# Altium footprint library PQFN50P350X550X100_HS-25N.PcbLib: 1 footprints
Each footprint in its own frame and in the unit in brackets; x right, y up, seen from the top. Pads: shape width x height; smd on the part's side, far side on the other; paste and mask are expansions set on the pad; w line width, h text height; cw(c..) or ccw(c..) is an arc to the next point about the centre after c.
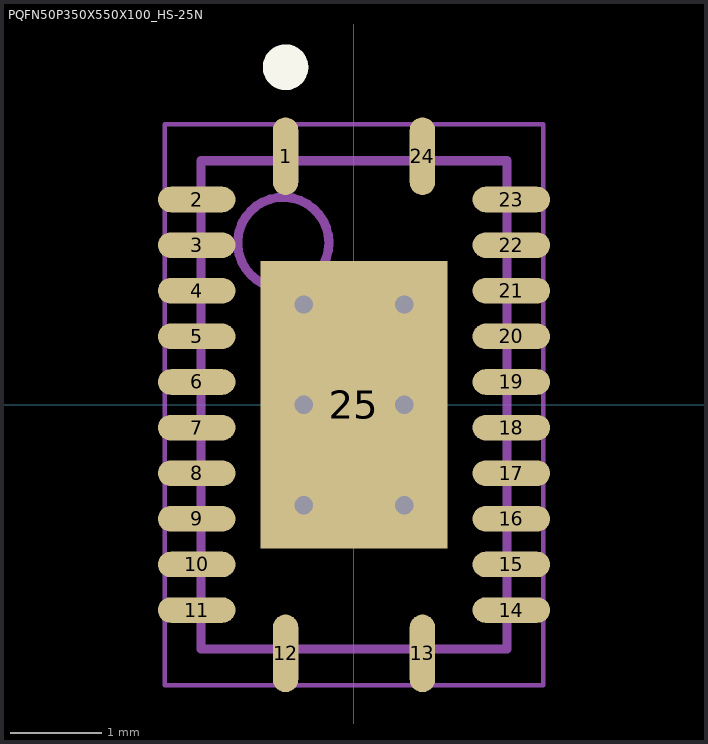
[diagram p0: the footprint, top view; thin cyan lines are the x and y axes]

## PQFN50P350X550X100_HS-25N [mm] "PQFN, 24-Leads, Body 3.50x5.50mm, Pitch 1.50mm/0.50mm, Thermal Pad 2.05x3.15mm, IPC Medium Density"
height 1
pads (25):
  oval 0.28x0.85 smd mask+0.05: 1(-0.75,2.725) 12(-0.75,-2.725) 13(0.75,-2.725) 24(0.75,2.725)
  oval 0.85x0.28 smd mask+0.05: 2(-1.725,2.25) 3(-1.725,1.75) 4(-1.725,1.25) 5(-1.725,0.75) 6(-1.725,0.25) 7(-1.725,-0.25) 8(-1.725,-0.75) 9(-1.725,-1.25) 10(-1.725,-1.75) 11(-1.725,-2.25) 14(1.725,-2.25) 15(1.725,-1.75) 16(1.725,-1.25) 17(1.725,-0.75) 18(1.725,-0.25) 19(1.725,0.25) 20(1.725,0.75) 21(1.725,1.25) 22(1.725,1.75) 23(1.725,2.25)
  rect 2.05x3.15 smd mask+0.05: 25(0,0)
via -0.55,1.1 diameter 0.5 hole 0.2
via 0.55,1.1 diameter 0.5 hole 0.2
via -0.55,0 diameter 0.5 hole 0.2
via 0.55,0 diameter 0.5 hole 0.2
via -0.55,-1.1 diameter 0.5 hole 0.2
via 0.55,-1.1 diameter 0.5 hole 0.2
Top Overlay:
  circle w0.25: c-0.75,3.7 r0.125
Top Assembly:
  circle w0.1: c-0.775,1.775 r0.5
  lines w0.1: -1.675,-2.675 -1.675,2.675 1.675,2.675 1.675,-2.675 -1.675,-2.675
Top Courtyard:
  lines w0.05: -2.075,-3.075 -2.075,3.075 2.075,3.075 2.075,-3.075 -2.075,-3.075
  lines w0.1: -0.5,0 0.5,0 ; 0,-0.5 0,0.5
3D body "PQFN50P350X550X100_HS-25N.step": height 1, standoff 0, extent -1.675,-2.675 1.675,2.675